# Altium footprint library resistor.PCBLIB: 427 footprints (part 23 of 27)
Each footprint in its own frame and in the unit in brackets; x right, y up, seen from the top. Pads: shape width x height; smd on the part's side, far side on the other; paste and mask are expansions set on the pad; w line width, h text height; cw(c..) or ccw(c..) is an arc to the next point about the centre after c.
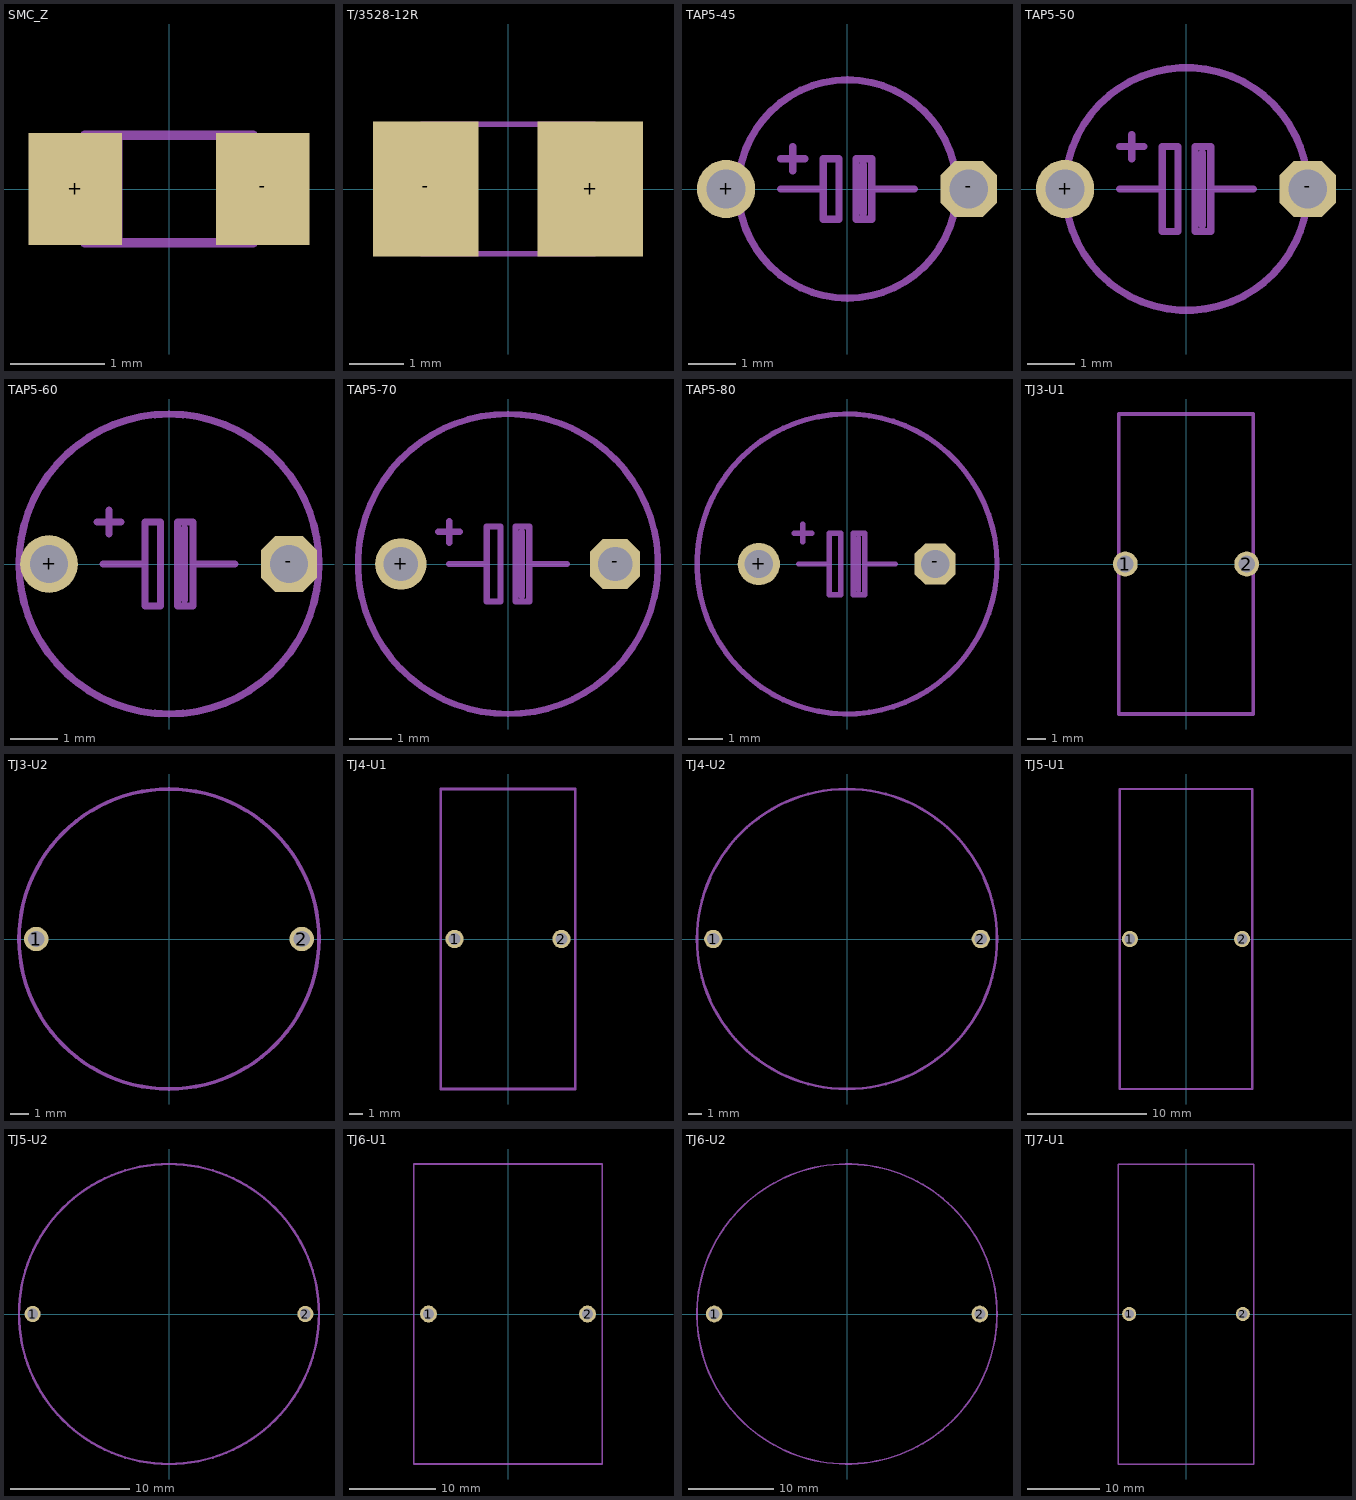
[diagram p22: the footprints below, top view; thin cyan lines are the x and y axes]

## SMC_Z [mm]
pads (2):
  rect 1x1.2 smd: +(-1,0) -(1,0)
Mechanical 8:
  region: -1,-0.45 -1,0.45 -0.9,0.45 -0.9,-0.45
  region: 1,0.45 1,-0.45 0.9,-0.45 0.9,0.45
  region: -0.9,-0.6 -0.9,0.6 -0.5,0.6 -0.5,-0.6
  lines w0.102: -0.9,-0.575 0.9,-0.575 0.9,0.575 -0.9,0.575 -0.9,-0.575

## T/3528-12R [mm]
pads (2):
  rect 1.95x2.5 smd: +(1.525,0) -(-1.525,0)
Mechanical 8:
  region: -1.75,-0.6 -1.75,0.6 -1.625,0.6 -1.625,-0.6
  region: 1.625,-0.6 1.625,0.6 1.75,0.6 1.75,-0.6
  region: 0.95,-1.225 0.95,1.225 1.25,1.225 1.25,-1.225
  lines w0.102: -1.6,-1.2 1.6,-1.2 1.6,1.2 -1.6,1.2 -1.6,-1.2

## TAP5-45 [mil]
pads (2):
  round 48 / inner round 60 / far side round 48 hole 32: +(-100,0)
  oct 46.48x46.48 / inner oct 60x60 / far side oct 46.48x46.48 hole 32: -(100,0)
Mechanical 8:
  lines w6: -75.37,-49.18 cw(c0,0) -75.37,49.18 ; 75.37,-49.18 ccw(c0,0) 75.37,49.18
Mechanical 22:
  lines w6: -75.37,-49.18 ccw(c0,0) 75.37,-49.18 ; -75.37,49.18 cw(c0,0) 75.37,49.18 ; -55,0 -20,0 ; -55,25 -35,25 ; -45,15 -45,35 ; 13,-20 13,20 ; 55,0 20,0 ; -20,0 -20,-25 -7,-25 -7,25 -20,25 -20,0 ; 20,0 20,-25 7,-25 7,25 20,25 20,0

## TAP5-50 [mil]
pads (2):
  round 48 / inner round 60 / far side round 48 hole 32: +(-100,0)
  oct 46.48x46.48 / inner oct 60x60 / far side oct 46.48x46.48 hole 32: -(100,0)
Mechanical 8:
  lines w6: -84.87,-52.88 cw(c0,0) -84.87,52.88 ; 84.87,-52.88 ccw(c0,0) 84.87,52.88
Mechanical 22:
  lines w6: -84.87,-52.88 ccw(c0,0) 84.87,-52.88 ; -84.87,52.88 cw(c0,0) 84.87,52.88 ; -55,0 -20,0 ; -55,35 -35,35 ; -45,25 -45,45 ; 13,-30 13,30 ; 55,0 20,0 ; -20,0 -20,-35 -7,-35 -7,35 -20,35 -20,0 ; 20,0 20,-35 7,-35 7,35 20,35 20,0

## TAP5-60 [mil]
pads (2):
  round 48 / inner round 60 / far side round 48 hole 32: +(-100,0)
  oct 46.48x46.48 / inner oct 60x60 / far side oct 46.48x46.48 hole 32: -(100,0)
Mechanical 8:
  lines w6: -113,-53.44 cw(c0,0) -113,53.44 ; 113,-53.44 ccw(c0,0) 113,53.44
Mechanical 22:
  lines w6: -113,-53.44 ccw(c0,0) 113,-53.44 ; -113,53.44 cw(c0,0) 113,53.44 ; -60,35 -40,35 ; -55,0 -20,0 ; -50,25 -50,45 ; 13,-30 13,30 ; 55,0 20,0 ; -20,0 -20,-35 -7,-35 -7,35 -20,35 -20,0 ; 20,0 20,-35 7,-35 7,35 20,35 20,0

## TAP5-70 [mil]
pads (2):
  round 48 / inner round 60 / far side round 48 hole 32: +(-100,0)
  oct 46.48x46.48 / inner oct 60x60 / far side oct 46.48x46.48 hole 32: -(100,0)
Mechanical 8:
  lines w6: -132.87,-44.09 cw(c0,0) -132.87,44.09 ; 132.87,-44.09 ccw(c0,0) 132.87,44.09
Mechanical 22:
  lines w6: -132.87,-44.09 ccw(c0,0) 132.87,-44.09 ; -132.87,44.09 cw(c0,0) 132.87,44.09 ; -65,30 -45,30 ; -55,0 -20,0 ; -55,20 -55,40 ; 13,-30 13,30 ; 55,0 20,0 ; -20,0 -20,-35 -7,-35 -7,35 -20,35 -20,0 ; 20,0 20,-35 7,-35 7,35 20,35 20,0

## TAP5-80 [mil]
pads (2):
  round 48 / inner round 60 / far side round 48 hole 32: +(-100,0)
  oct 46.48x46.48 / inner oct 60x60 / far side oct 46.48x46.48 hole 32: -(100,0)
Mechanical 22:
  circle w6: c0,0 r170
  lines w6: -60,35 -40,35 ; -55,0 -20,0 ; -50,25 -50,45 ; 13,-30 13,30 ; 55,0 20,0 ; -20,0 -20,-35 -7,-35 -7,35 -20,35 -20,0 ; 20,0 20,-35 7,-35 7,35 20,35 20,0

## TJ3-U1 [mil]
pads (2):
  round 53.15 / inner round 60 / far side round 53.15 hole 35.43: 1(-129.92,0) 2(129.92,0)
Mechanical 8:
  lines w8: -143.7,-43.31 -143.7,43.31 ; 143.7,-43.31 143.7,43.31
Mechanical 22:
  lines w8: -143.7,-43.31 -143.7,-320.87 143.7,-320.87 143.7,-43.31 ; -143.7,43.31 -143.7,320.87 143.7,320.87 143.7,43.31

## TJ3-U2 [mm]
pads (2):
  round 1.35 / inner round 1.524 / far side round 1.35 hole 0.9: 1(-7.35,0) 2(7.35,0)
Mechanical 6:
  circle w0.203: c0,0 r8.3

## TJ4-U1 [mil]
pads (2):
  round 53.15 / inner round 60 / far side round 53.15 hole 35.43: 1(-154.92,0) 2(154.92,0)
Mechanical 22:
  lines w8: -194.88,-435.04 194.88,-435.04 194.88,435.04 -194.88,435.04 -194.88,-435.04

## TJ4-U2 [mil]
pads (2):
  round 53.15 / inner round 60 / far side round 53.15 hole 35.43: 1(-389.76,0) 2(389.76,0)
Mechanical 6:
  circle w8: c0,0 r437.01

## TJ5-U1 [mm]
pads (2):
  round 1.35 / inner round 1.524 / far side round 1.35 hole 0.9: 1(-4.7,0) 2(4.7,0)
Mechanical 22:
  lines w0.203: -5.55,-12.55 5.55,-12.55 5.55,12.55 -5.55,12.55 -5.55,-12.55

## TJ5-U2 [mil]
pads (2):
  round 53.15 / inner round 60 / far side round 53.15 hole 35.43: 1(-450.79,0) 2(450.79,0)
Mechanical 6:
  circle w8: c0,0 r496.06

## TJ6-U1 [mil]
pads (2):
  round 76.77 / inner round 60 / far side round 76.77 hole 51.18: 1(-364.17,0) 2(364.17,0)
Mechanical 22:
  lines w8: -431.1,-687.01 431.1,-687.01 431.1,687.01 -431.1,687.01 -431.1,-687.01

## TJ6-U2 [mil]
pads (2):
  round 76.77 / inner round 60 / far side round 76.77 hole 51.18: 1(-610.24,0) 2(610.24,0)
Mechanical 6:
  circle w8: c0,0 r688.98

## TJ7-U1 [mil]
pads (2):
  round 76.77 / inner round 60 / far side round 76.77 hole 51.18: 1(-311.02,0) 2(311.02,0)
Mechanical 22:
  lines w8: -372.05,-820.87 372.05,-820.87 371.26,820.87 -372.05,820.87 -372.05,-820.87